# EAGLE library part MOTOR-DRIVER-DRV2605L (library FlashPCB_ICs)
DRV2605L - Motor Driver Power MOSFET I2C Technical Specifications: Haptic and Vibration driver :LRA( Linear Resistancece Actuator), ERA(Eccentric Rotating Mass) Supply/Operating Voltage: 2.5V~5V Component Search: DRV2605 <https://www.flashpcb.com/components> Datasheet: DRV2605L 2- to 5.2-V Haptic Driver for LRA and ERM with Effect Library and Smart-Loop Architecture datasheet (Rev. D) <https://www.ti.com/lit/ds/symlink/drv2605l.pdf?HQS=dis-dk-null-digikeymode-dsf-pf-null-wwe&ts=1682095852919&ref_url=https%253A%252F%252Fwww.ti.com%252Fgeneral%252Fdocs%252Fsuppproductinfo.tsp%253FdistId%253D10%2526gotoUrl%253Dhttps%253A%252F%252Fwww.ti.com%252Flit%252Fgpn%252Fdrv2605l>
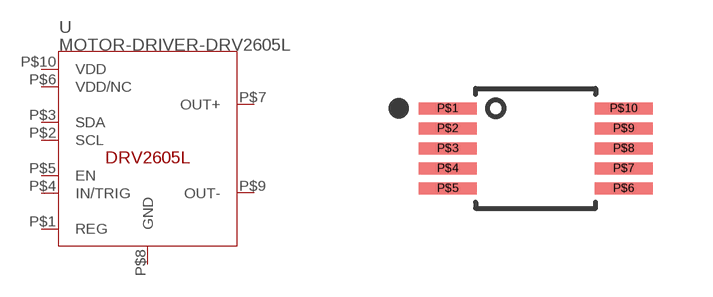
[diagram p60: symbol with the pads of 10-VSSOP; footprint 10-VSSOP]

Designator prefix U

## MOTOR-DRIVER-DRV2605LDGS  [10-VSSOP]
P$1  REG
P$2  SCL
P$3  SDA
P$4  IN/TRIG
P$5  EN
P$6  VDD/NC
P$7  OUT+
P$8  GND
P$9  OUT-
P$10  VDD

## Footprint 10-VSSOP (pad centres in mm)
smd 1.45 x 0.3: P$1 -2.2,1; P$2 -2.2,0.5; P$3 -2.2,0; P$4 -2.2,-0.5; P$5 -2.2,-1; P$6 2.2,-1; P$7 2.2,-0.5; P$8 2.2,0; P$9 2.2,0.5; P$10 2.2,1